# Altium integrated library Silicon Labs Clocks and Oscillators.IntLib: 678 symbols (part 43 of 45)
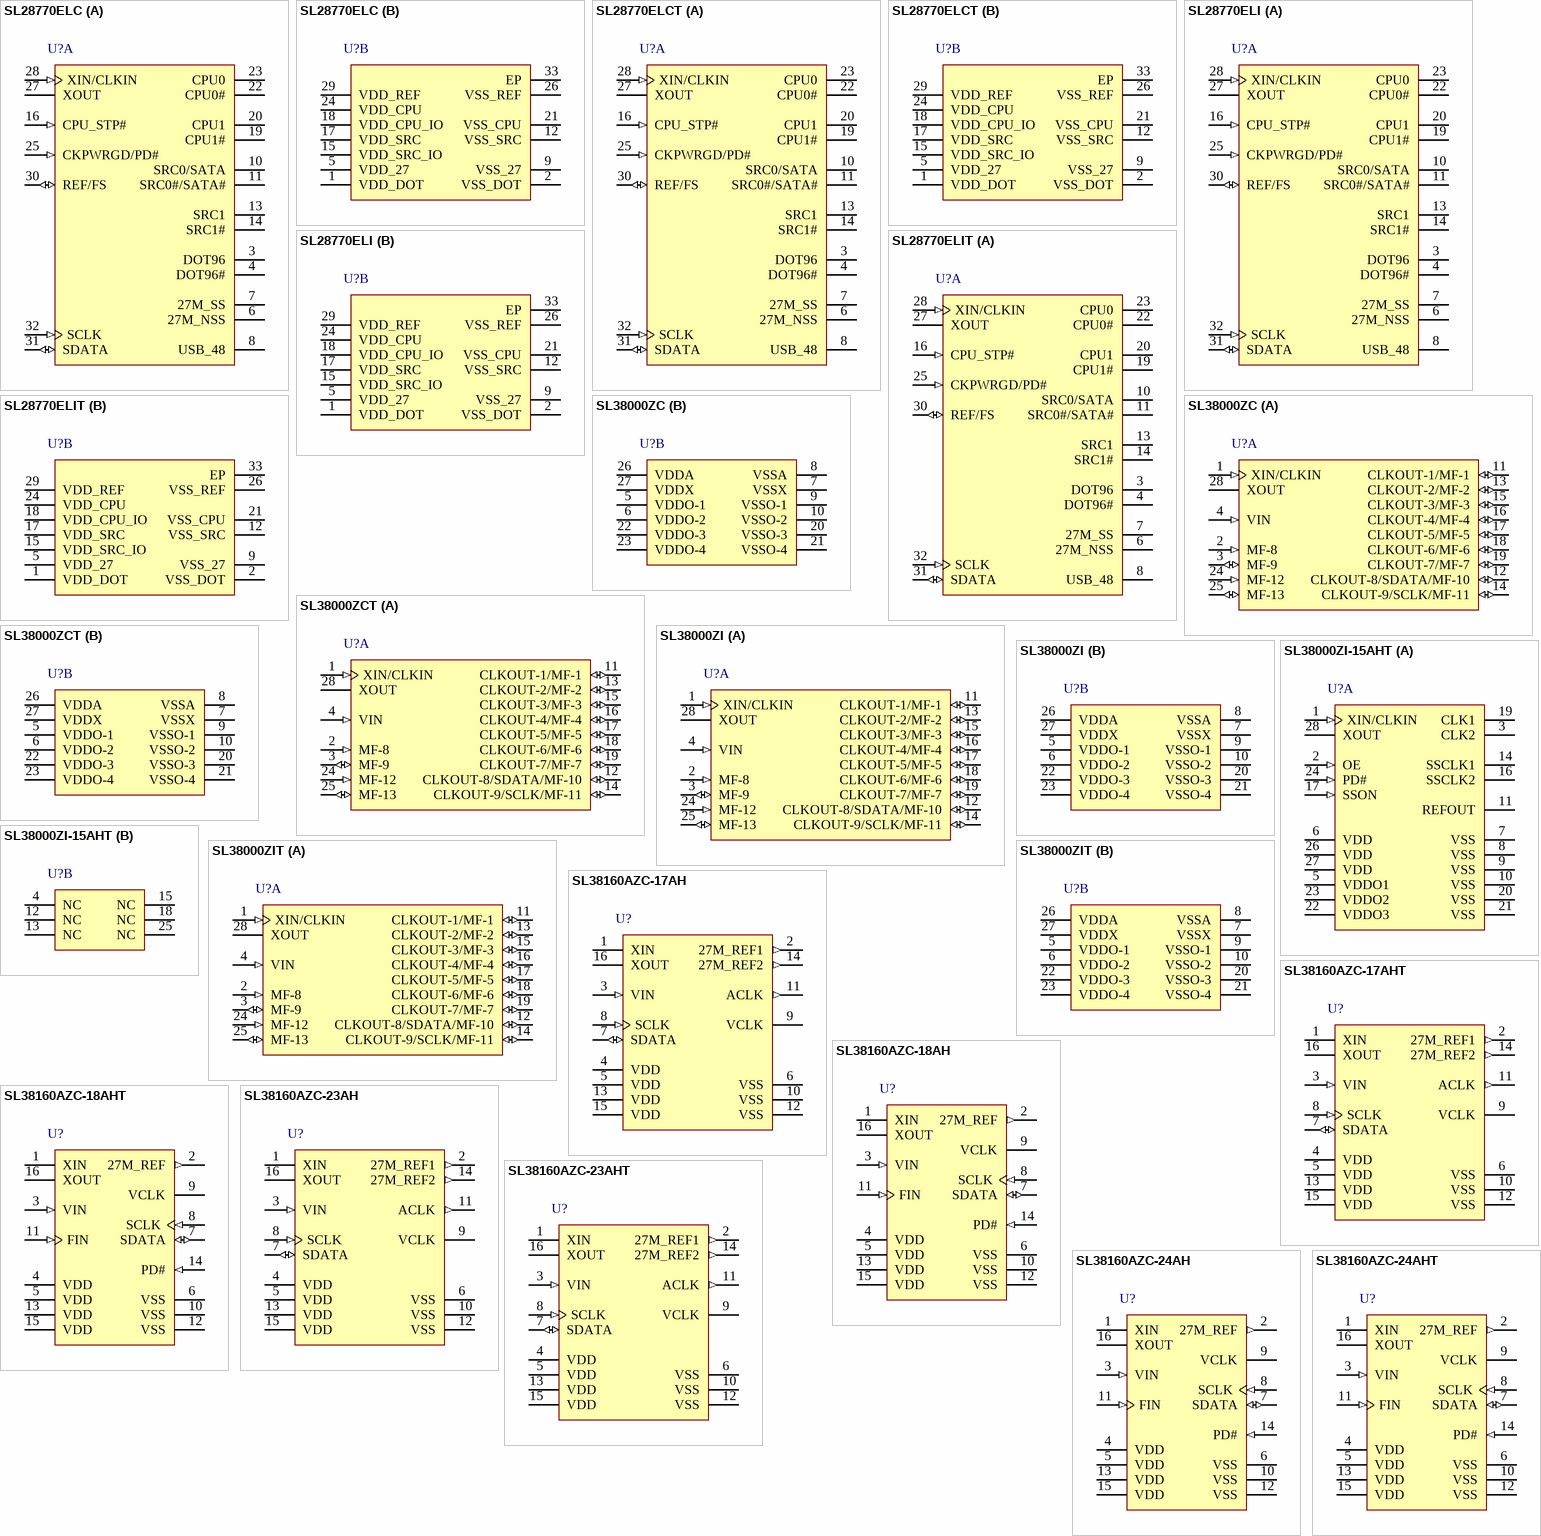
[diagram p86: symbols SL28770ELC to SL38160AZC-24AHT]

## SL28770ELI
designator U?
EProClock(R) Generator for Intel Calpella Chipset, 3.3 V, 133 MHz Max Output, -40 to 85 degC, 32-pin QFN; Manufacturer: Silicon Labs; PartNumber: SL28770ELI; Output Format: LVCMOS; HCSL; Output Frequency (MHz): 14.318; 27; 48; 96; 100; 133; Reference Inputs: 1; VDD: 3.3 V; Sub-Family: Clock Generators; DatasheetVersion: Rev. AA; PackageReference: QFN-32; PackageDescription: 32-Pin Quad-Flat No-Leads Package, Body 5 x 5 mm, Pitch 0.5 mm; Supplier 1: Digi-Key; Supplier Part Number 1: SL28770ELI-ND; Supplier 2: Mouser; Supplier Part Number 2: 634-SL28770ELI; Mounting Technology: Surface Mount; ComponentLink1Description: Manufacturer URL; ComponentLink1URL: http://www.silabs.com/; ComponentLink2Description: Datasheet; ComponentLink2URL: http://www.silabs.com/Support%20Documents/TechnicalDocs/SL28770.pdf; ComponentLink3Description: Package Specification; ComponentLink3URL: http://www.silabs.com/Support%20Documents/TechnicalDocs/SL28PCIe10.pdf
footprint SLAB-QFN-32-3300x3300TP_B_N (QFN, 32-Leads, Body 5.1x5.1mm, Pitch 0.5mm, Thermal Pad 3.3x3.3mm, IPC Medium Density)
footprint SLAB-QFN-32-3300x3300TP_B_L (QFN, 32-Leads, Body 5.1x5.1mm, Pitch 0.5mm, Thermal Pad 3.3x3.3mm, IPC High Density)
footprint SLAB-QFN-32-3300x3300TP_B_M (QFN, 32-Leads, Body 5.1x5.1mm, Pitch 0.5mm, Thermal Pad 3.3x3.3mm, IPC Low Density)
part A pins: 3 DOT96 (hiz) "Fixed true 96MHz clock output", 4 DOT96# (hiz) "Fixed complement 96MHz clock output", 6 27M_NSS (hiz) "Non-spread 27MHz video clock output", 7 27M_SS (hiz) "Spread 27MHz video clock output", 8 USB_48 (hiz) "Non-spread 48MHz video clock output", 10 SRC0/SATA (hiz) "100MHz True differential serial reference clock", 11 SRC0#/SATA# (hiz) "100MHz Complement differential serial reference clock", 13 SRC1 (hiz) "100MHz True differential serial reference clock", 14 SRC1# (hiz) "100MHz Complement differential serial reference clock", 16 CPU_STP# (in) "3.3V tolerance input to stop the CPU clock", 19 CPU1# (hiz) "Complement differential CPU clock output", 20 CPU1 (hiz) "True differential CPU clock output", 22 CPU0# (hiz) "Complement differential CPU clock output", 23 CPU0 (hiz) "True differential CPU clock output", 25 CKPWRGD/PD# (in) "3.3V LVTTL input. This pin is a level sensitive strobe used to latch the FS. After CKPWRGD (active HIGH) assertion, this pin becomes a real-time input for asserting power down (active LOW)", 27 XOUT "14.318MHz Crystal output, Float XOUT if using only CLKIN (Clock input)", 28 XIN/CLKIN (in) "14.318MHz Crystal input or 3.3V, 14.318MHz Clock Input", 30 REF/FS (io) "3.3V tolerant input for Graphic clock selection/fixed 14.318MHz clock output. (Internal 100K-ohm pull-down resistor on FS pin) Refer to DC Electrical Specifications table for Vil_FS and Vih_FS specifications", 31 SDATA (io) "SMBus compatible SDATA", 32 SCLK (in) "SMBus compatible SCLOCK"
part B pins: 1 VDD_DOT (power) "3.3V Power supply for outputs and PLL", 2 VSS_DOT (power) "Ground for outputs", 5 VDD_27 (power) "3.3V Power supply for 27MHz PLL", 9 VSS_27 (power) "Ground for 27MHz PLL", 12 VSS_SRC (power) "Ground for PLL", 15 VDD_SRC_IO (power) "Scalable 3.3V to 1.05V power supply for output buffer", 17 VDD_SRC (power) "3.3V Power supply for PLL", 18 VDD_CPU_IO (power) "Scalable 3.3V to 1.05V power supply for output buffer", 21 VSS_CPU (power) "Ground for PLL", 24 VDD_CPU (power) "3.3V Power supply for CPU PLL", 26 VSS_REF (power) "Ground for outputs", 29 VDD_REF (power) "3.3V Power supply for outputs and also maintains SMBUS registers during power-down", 33 EP

## SL28770ELIT
designator U?
EProClock(R) Generator for Intel Calpella Chipset, 3.3 V, 133 MHz Max Output, -40 to 85 degC, 32-pin QFN, Tape and Reel; Manufacturer: Silicon Labs; PartNumber: SL28770ELIT; Output Format: LVCMOS; HCSL; Output Frequency (MHz): 14.318; 27; 48; 96; 100; 133; Phase Jitter (RMS): > 1 ps; Reference Inputs: 1; VDD: 3.3 V; Sub-Family: Clock Generators; DatasheetVersion: Rev. AA; PackageReference: QFN-32; PackageDescription: 32-Pin Quad-Flat No-Leads Package, Body 5 x 5 mm, Pitch 0.5 mm; Supplier 1: Digi-Key; Supplier Part Number 1: SL28770ELIT-ND; Supplier 2: Mouser; Supplier Part Number 2: 634-SL28770ELIT; Packing: Tape and Reel; Mounting Technology: Surface Mount; ComponentLink1Description: Manufacturer URL; ComponentLink1URL: http://www.silabs.com/; ComponentLink2Description: Datasheet; ComponentLink2URL: http://www.silabs.com/Support%20Documents/TechnicalDocs/SL28770.pdf; ComponentLink3Description: Package Specification; ComponentLink3URL: http://www.silabs.com/Support%20Documents/TechnicalDocs/SL28PCIe10.pdf
footprint SLAB-QFN-32-3300x3300TP_B_N (QFN, 32-Leads, Body 5.1x5.1mm, Pitch 0.5mm, Thermal Pad 3.3x3.3mm, IPC Medium Density)
footprint SLAB-QFN-32-3300x3300TP_B_L (QFN, 32-Leads, Body 5.1x5.1mm, Pitch 0.5mm, Thermal Pad 3.3x3.3mm, IPC High Density)
footprint SLAB-QFN-32-3300x3300TP_B_M (QFN, 32-Leads, Body 5.1x5.1mm, Pitch 0.5mm, Thermal Pad 3.3x3.3mm, IPC Low Density)
part A pins: 3 DOT96 (hiz) "Fixed true 96MHz clock output", 4 DOT96# (hiz) "Fixed complement 96MHz clock output", 6 27M_NSS (hiz) "Non-spread 27MHz video clock output", 7 27M_SS (hiz) "Spread 27MHz video clock output", 8 USB_48 (hiz) "Non-spread 48MHz video clock output", 10 SRC0/SATA (hiz) "100MHz True differential serial reference clock", 11 SRC0#/SATA# (hiz) "100MHz Complement differential serial reference clock", 13 SRC1 (hiz) "100MHz True differential serial reference clock", 14 SRC1# (hiz) "100MHz Complement differential serial reference clock", 16 CPU_STP# (in) "3.3V tolerance input to stop the CPU clock", 19 CPU1# (hiz) "Complement differential CPU clock output", 20 CPU1 (hiz) "True differential CPU clock output", 22 CPU0# (hiz) "Complement differential CPU clock output", 23 CPU0 (hiz) "True differential CPU clock output", 25 CKPWRGD/PD# (in) "3.3V LVTTL input. This pin is a level sensitive strobe used to latch the FS. After CKPWRGD (active HIGH) assertion, this pin becomes a real-time input for asserting power down (active LOW)", 27 XOUT "14.318MHz Crystal output, Float XOUT if using only CLKIN (Clock input)", 28 XIN/CLKIN (in) "14.318MHz Crystal input or 3.3V, 14.318MHz Clock Input", 30 REF/FS (io) "3.3V tolerant input for Graphic clock selection/fixed 14.318MHz clock output. (Internal 100K-ohm pull-down resistor on FS pin) Refer to DC Electrical Specifications table for Vil_FS and Vih_FS specifications", 31 SDATA (io) "SMBus compatible SDATA", 32 SCLK (in) "SMBus compatible SCLOCK"
part B pins: 1 VDD_DOT (power) "3.3V Power supply for outputs and PLL", 2 VSS_DOT (power) "Ground for outputs", 5 VDD_27 (power) "3.3V Power supply for 27MHz PLL", 9 VSS_27 (power) "Ground for 27MHz PLL", 12 VSS_SRC (power) "Ground for PLL", 15 VDD_SRC_IO (power) "Scalable 3.3V to 1.05V power supply for output buffer", 17 VDD_SRC (power) "3.3V Power supply for PLL", 18 VDD_CPU_IO (power) "Scalable 3.3V to 1.05V power supply for output buffer", 21 VSS_CPU (power) "Ground for PLL", 24 VDD_CPU (power) "3.3V Power supply for CPU PLL", 26 VSS_REF (power) "Ground for outputs", 29 VDD_REF (power) "3.3V Power supply for outputs and also maintains SMBUS registers during power-down", 33 EP

## SL38000ZC
designator U?
Programmable 4-PLL CG with VCXO and SSCG, 1.8 / 2.5 / 3.3 V, 3 to 200 MHz Output, 0 to 70 degC, 28-pin SOP, Tube; Manufacturer: Silicon Labs; PartNumber: SL38000ZC; Output Format: LVCMOS; Output Frequency (MHz): 3 to 200; Phase Jitter (RMS): > 1 ps; Reference Inputs: 1; VDD: 1.8 V; 2.5 V; 3.3 V; Sub-Family: Clock Generators part3; DatasheetVersion: Rev. 1.1; PackageReference: TSSOP-28; PackageDescription: 28-Pin Thin Shrink Small-Outline Package, Body 9.7 x 4.4 mm, Pitch 0.65 mm; Supplier 1: Digi-Key; Supplier Part Number 1: SL38000ZC-ND; Supplier 2: Mouser; Supplier Part Number 2: 634-SL38000ZC; Packing: Tube; Mounting Technology: Surface Mount; Code_JEDEC: MO-153; ComponentLink1Description: Manufacturer URL; ComponentLink1URL: http://www.silabs.com/; ComponentLink2Description: Datasheet; ComponentLink2URL: http://www.silabs.com/Support%20Documents/TechnicalDocs/SL38000.pdf; ComponentLink3Description: Package Specification; ComponentLink3URL: http://www.silabs.com/Support%20Documents/TechnicalDocs/SL38000.pdf
footprint SLAB-TSSOP-28_A_N (SOP, 28-Leads, Body 9.8x4.5mm, Pitch 0.65mm, IPC Medium Density)
footprint SLAB-TSSOP-28_A_L (SOP, 28-Leads, Body 9.8x4.5mm, Pitch 0.65mm, IPC High Density)
footprint SLAB-TSSOP-28_A_M (SOP, 28-Leads, Body 9.8x4.5mm, Pitch 0.65mm, IPC Low Density)
part A pins: 1 XIN/CLKIN (in) "Crystal oscillator or external clock input.", 2 MF-8 (in) "Multi function input/output. Programmed as OE, FS. There is no programmable pull-up/down resistor.", 3 MF-9 (io) "Multi function input/output. Programmed as REFOUT-1, OE, PD#, SSON# or FS. Only programmable pull-up resistor available.", 4 VIN (in) "VCXO control pin VIN.", 11 CLKOUT-1/MF-1 (io), 12 CLKOUT-8/SDATA/MF-10 (io), 13 CLKOUT-2/MF-2 (io), 14 CLKOUT-9/SCLK/MF-11 (io), 15 CLKOUT-3/MF-3 (io), 16 CLKOUT-4/MF-4 (io), 17 CLKOUT-5/MF-5 (io), 18 CLKOUT-6/MF-6 (io), 19 CLKOUT-7/MF-7 (io), 24 MF-12 (in) "Multi function input. Programmed as OE, PD#, SSON# or FS. Programmable pull-up/down resistor is available.", 25 MF-13 (io) "Multi function input/output. Programmed as REFOUT-2, OE, PD#, SSON# or FS. Programmable pull-up/down resistor is available.", 28 XOUT "Leave unconnected when external clock is used."
part B pins: 5 VDDO-1 (power) "Power supply for CLKOUT-3, 3.3V to 2.5V or 1.8V, VDDO =< VDD.", 6 VDDO-2 (power) "Power supply for CLKOUT-1/2/8/9, 3.3V to 2.5V or 1.8V, VDDO =< VDD.", 7 VSSX (power) "Power supply ground for oscillator and core logic.", 8 VSSA (power) "Power supply ground for PLLs.", 9 VSSO-1 (power) "Power ground for CLKOUT-3.", 10 VSSO-2 (power) "Power ground for CLKOUT-1/2/8/9.", 20 VSSO-3 (power) "Power ground for CLKOUT-5/6/7.", 21 VSSO-4 (power) "Power ground for CLKOUT-4.", 22 VDDO-3 (power) "Power supply for CLKOUT-5/6/7, 3.3V to 2.5V or 1.8V, VDDO =< VDD.", 23 VDDO-4 (power) "Power supply for CLKOUT-4, 3.3V to 2.5V or 1.8V, VDDO =< VDD.", 26 VDDA (power) "Power supply, 3.3V to 2.5V, for PLLs.", 27 VDDX (power) "Power supply, 3.3V to 2.5V, for oscillator and core logic."

## SL38000ZCT
designator U?
Programmable 4-PLL CG with VCXO and SSCG, 1.8 / 2.5 / 3.3 V, 3 to 200 MHz Output, 0 to 70 degC, 28-pin SOP, Tape and Reel; Manufacturer: Silicon Labs; PartNumber: SL38000ZCT; Output Format: LVCMOS; Output Frequency (MHz): 3 to 200; Phase Jitter (RMS): > 1 ps; Reference Inputs: 1; VDD: 1.8 V; 2.5 V; 3.3 V; Sub-Family: Clock Generators part3; DatasheetVersion: Rev. 1.1; PackageReference: TSSOP-28; PackageDescription: 28-Pin Thin Shrink Small-Outline Package, Body 9.7 x 4.4 mm, Pitch 0.65 mm; Supplier 1: Digi-Key; Supplier Part Number 1: SL38000ZCT-ND; Supplier 2: Mouser; Supplier Part Number 2: 634-SL38000ZCT; Packing: Tape and Reel; Mounting Technology: Surface Mount; Code_JEDEC: MO-153; ComponentLink1Description: Manufacturer URL; ComponentLink1URL: http://www.silabs.com/; ComponentLink2Description: Datasheet; ComponentLink2URL: http://www.silabs.com/Support%20Documents/TechnicalDocs/SL38000.pdf; ComponentLink3Description: Package Specification; ComponentLink3URL: http://www.silabs.com/Support%20Documents/TechnicalDocs/SL38000.pdf
footprint SLAB-TSSOP-28_A_N (SOP, 28-Leads, Body 9.8x4.5mm, Pitch 0.65mm, IPC Medium Density)
footprint SLAB-TSSOP-28_A_L (SOP, 28-Leads, Body 9.8x4.5mm, Pitch 0.65mm, IPC High Density)
footprint SLAB-TSSOP-28_A_M (SOP, 28-Leads, Body 9.8x4.5mm, Pitch 0.65mm, IPC Low Density)
part A pins: 1 XIN/CLKIN (in) "Crystal oscillator or external clock input.", 2 MF-8 (in) "Multi function input/output. Programmed as OE, FS. There is no programmable pull-up/down resistor.", 3 MF-9 (io) "Multi function input/output. Programmed as REFOUT-1, OE, PD#, SSON# or FS. Only programmable pull-up resistor available.", 4 VIN (in) "VCXO control pin VIN.", 11 CLKOUT-1/MF-1 (io), 12 CLKOUT-8/SDATA/MF-10 (io), 13 CLKOUT-2/MF-2 (io), 14 CLKOUT-9/SCLK/MF-11 (io), 15 CLKOUT-3/MF-3 (io), 16 CLKOUT-4/MF-4 (io), 17 CLKOUT-5/MF-5 (io), 18 CLKOUT-6/MF-6 (io), 19 CLKOUT-7/MF-7 (io), 24 MF-12 (in) "Multi function input. Programmed as OE, PD#, SSON# or FS. Programmable pull-up/down resistor is available.", 25 MF-13 (io) "Multi function input/output. Programmed as REFOUT-2, OE, PD#, SSON# or FS. Programmable pull-up/down resistor is available.", 28 XOUT "Leave unconnected when external clock is used."
part B pins: 5 VDDO-1 (power) "Power supply for CLKOUT-3, 3.3V to 2.5V or 1.8V, VDDO =< VDD.", 6 VDDO-2 (power) "Power supply for CLKOUT-1/2/8/9, 3.3V to 2.5V or 1.8V, VDDO =< VDD.", 7 VSSX (power) "Power supply ground for oscillator and core logic.", 8 VSSA (power) "Power supply ground for PLLs.", 9 VSSO-1 (power) "Power ground for CLKOUT-3.", 10 VSSO-2 (power) "Power ground for CLKOUT-1/2/8/9.", 20 VSSO-3 (power) "Power ground for CLKOUT-5/6/7.", 21 VSSO-4 (power) "Power ground for CLKOUT-4.", 22 VDDO-3 (power) "Power supply for CLKOUT-5/6/7, 3.3V to 2.5V or 1.8V, VDDO =< VDD.", 23 VDDO-4 (power) "Power supply for CLKOUT-4, 3.3V to 2.5V or 1.8V, VDDO =< VDD.", 26 VDDA (power) "Power supply, 3.3V to 2.5V, for PLLs.", 27 VDDX (power) "Power supply, 3.3V to 2.5V, for oscillator and core logic."

## SL38000ZI
designator U?
Programmable 4-PLL CG with VCXO and SSCG, 1.8 / 2.5 / 3.3 V, 3 to 200 MHz Output, -40 to 85 degC, 28-pin SOP, Tube; Manufacturer: Silicon Labs; PartNumber: SL38000ZI; Output Format: LVCMOS; Output Frequency (MHz): 3 to 200; Phase Jitter (RMS): > 1 ps; Reference Inputs: 1; VDD: 1.8 V; 2.5 V; 3.3 V; Sub-Family: Clock Generators part3; DatasheetVersion: Rev. 1.1; PackageReference: TSSOP-28; PackageDescription: 28-Pin Thin Shrink Small-Outline Package, Body 9.7 x 4.4 mm, Pitch 0.65 mm; Supplier 1: Digi-Key; Supplier Part Number 1: SL38000ZI-ND; Supplier 2: Mouser; Supplier Part Number 2: 634-SL38000ZI; Packing: Tube; Mounting Technology: Surface Mount; Code_JEDEC: MO-153; ComponentLink1Description: Manufacturer URL; ComponentLink1URL: http://www.silabs.com/; ComponentLink2Description: Datasheet; ComponentLink2URL: http://www.silabs.com/Support%20Documents/TechnicalDocs/SL38000.pdf; ComponentLink3Description: Package Specification; ComponentLink3URL: http://www.silabs.com/Support%20Documents/TechnicalDocs/SL38000.pdf
footprint SLAB-TSSOP-28_A_N (SOP, 28-Leads, Body 9.8x4.5mm, Pitch 0.65mm, IPC Medium Density)
footprint SLAB-TSSOP-28_A_L (SOP, 28-Leads, Body 9.8x4.5mm, Pitch 0.65mm, IPC High Density)
footprint SLAB-TSSOP-28_A_M (SOP, 28-Leads, Body 9.8x4.5mm, Pitch 0.65mm, IPC Low Density)
part A pins: 1 XIN/CLKIN (in) "Crystal oscillator or external clock input.", 2 MF-8 (in) "Multi function input/output. Programmed as OE, FS. There is no programmable pull-up/down resistor.", 3 MF-9 (io) "Multi function input/output. Programmed as REFOUT-1, OE, PD#, SSON# or FS. Only programmable pull-up resistor available.", 4 VIN (in) "VCXO control pin VIN.", 11 CLKOUT-1/MF-1 (io), 12 CLKOUT-8/SDATA/MF-10 (io), 13 CLKOUT-2/MF-2 (io), 14 CLKOUT-9/SCLK/MF-11 (io), 15 CLKOUT-3/MF-3 (io), 16 CLKOUT-4/MF-4 (io), 17 CLKOUT-5/MF-5 (io), 18 CLKOUT-6/MF-6 (io), 19 CLKOUT-7/MF-7 (io), 24 MF-12 (in) "Multi function input. Programmed as OE, PD#, SSON# or FS. Programmable pull-up/down resistor is available.", 25 MF-13 (io) "Multi function input/output. Programmed as REFOUT-2, OE, PD#, SSON# or FS. Programmable pull-up/down resistor is available.", 28 XOUT "Leave unconnected when external clock is used."
part B pins: 5 VDDO-1 (power) "Power supply for CLKOUT-3, 3.3V to 2.5V or 1.8V, VDDO =< VDD.", 6 VDDO-2 (power) "Power supply for CLKOUT-1/2/8/9, 3.3V to 2.5V or 1.8V, VDDO =< VDD.", 7 VSSX (power) "Power supply ground for oscillator and core logic.", 8 VSSA (power) "Power supply ground for PLLs.", 9 VSSO-1 (power) "Power ground for CLKOUT-3.", 10 VSSO-2 (power) "Power ground for CLKOUT-1/2/8/9.", 20 VSSO-3 (power) "Power ground for CLKOUT-5/6/7.", 21 VSSO-4 (power) "Power ground for CLKOUT-4.", 22 VDDO-3 (power) "Power supply for CLKOUT-5/6/7, 3.3V to 2.5V or 1.8V, VDDO =< VDD.", 23 VDDO-4 (power) "Power supply for CLKOUT-4, 3.3V to 2.5V or 1.8V, VDDO =< VDD.", 26 VDDA (power) "Power supply, 3.3V to 2.5V, for PLLs.", 27 VDDX (power) "Power supply, 3.3V to 2.5V, for oscillator and core logic."

## SL38000ZI-15AHT
designator U?
4-PLL Clock Generator with SSC, 1.8 / 2.5 / 3.3 V, 3 to 200 MHz Output, -40 to 85 degC, 28-pin SOP, Tape and Reel; Manufacturer: Silicon Labs; PartNumber: SL38000ZI-15AHT; Output Format: LVCMOS; Output Frequency (MHz): 3 to 200; Phase Jitter (RMS): > 1 ps; Reference Inputs: 1; VDD: 1.8 V; 2.5 V; 3.3 V; Sub-Family: Clock Generators part3; DatasheetVersion: Rev. 2.3; PackageReference: TSSOP-28; PackageDescription: 28-Pin Thin Shrink Small-Outline Package, Body 9.7 x 4.4 mm, Pitch 0.65 mm; Supplier 1: Digi-Key; Supplier Part Number 1: SL38000ZI-15AHT-ND; Supplier 2: Mouser; Supplier Part Number 2: 634-SL38000ZI-15AHT; Packing: Tape and Reel; Mounting Technology: Surface Mount; Code_JEDEC: MO-153; ComponentLink1Description: Manufacturer URL; ComponentLink1URL: http://www.silabs.com/; ComponentLink2Description: Datasheet; ComponentLink2URL: http://www.silabs.com/Support%20Documents/TechnicalDocs/SL38000-15AH.pdf; ComponentLink3Description: Package Specification; ComponentLink3URL: http://www.silabs.com/Support%20Documents/TechnicalDocs/SL38000.pdf
footprint SLAB-TSSOP-28_A_N (SOP, 28-Leads, Body 9.8x4.5mm, Pitch 0.65mm, IPC Medium Density)
footprint SLAB-TSSOP-28_A_L (SOP, 28-Leads, Body 9.8x4.5mm, Pitch 0.65mm, IPC High Density)
footprint SLAB-TSSOP-28_A_M (SOP, 28-Leads, Body 9.8x4.5mm, Pitch 0.65mm, IPC Low Density)
part A pins: 1 XIN/CLKIN (in) "External crystal oscillator input. XIN=25.000MHz. If crystal with CL=18pF is  used no external crystal load capacitors are needed. See Note-2 below.", 2 OE (in) "Output enable for CLK1 (12.000MHz) pin. OE=1 CLK1 is enabled. OE=0 CLK1  is disabled. Refer to Table 2. Weakly pulled-up to VDD (200kohm-typ).", 3 CLK2 (hiz) "125.000MHz clock output. No Spread.", 5 VDDO1 (power) "Power pin for SSCLK1=133.333MHz. 3.3V+/-10%. Power supply ramp on this  pin should be the same as VDD power ramp on pins 6, 26 and 27. See Note-1  below.", 6 VDD (power) "3.3V+/-10%.", 7 VSS (power) "Power supply ground for VDD and VDDO pins.", 8 VSS (power) "Power supply ground for VDD and VDDO pins.", 9 VSS (power) "Power supply ground for VDD and VDDO pins.", 10 VSS (power) "Power supply ground for VDD and VDDO pins.", 11 REFOUT (hiz) "25.000MHz. (Same as crystal input frequency)", 14 SSCLK1 (hiz) "133.333MHz clock output with spread option. Spread is off if SSON=0. Spread  is on if SSON=1. Refer to Table 1.", 16 SSCLK2 (hiz) "50.000MHz clock output with spread option. Spread is off if SSON=0. Spread  is on if SSON=1. Refer to Table 1.", 17 SSON (in) "Spread control pin for SSCLK1 (133.333MHz) and SSCLK2 (50.000MHz)  clocks. If SSON=1 spread is on. If SSON=0 spread is 0% (no spread). Refer to  Table 1 for spread % values. Weakly pulled-down to VSS (200kohm-typ). SSON is (See Datasheet)", 19 CLK1 (hiz) "12.000MHz clock output. No Spread.", 20 VSS (power) "Power supply ground for VDD and VDDO pins.", 21 VSS (power) "Power supply ground for VDD and VDDO pins.", 22 VDDO3 (power) "Power pin for CLK1=12.000MHz. 3.3V+/-10%. Power supply ramp on this pin  should be the same as VDD power ramp on pins 6, 26 and 27. See Note-1  below.", 23 VDDO2 (power) "Power pin for SSCLK2=50.000MHz. 3.3V+/-10%. Power supply ramp on this  pin should be the same as VDD power ramp on pins 6, 26 and 27. See Note-1  below.", 24 PD# (in) "Power down control pin. PD#=1 is normal operation. Device is turned off if  PD#=0. Refer to Table 3. Weakly pulled-up to VDD (200kohm-typ).", 26 VDD (power) "3.3V+/-10%.", 27 VDD (power) "3.3V+/-10%.", 28 XOUT "External crystal output. If crystal with CL=18pF is used no external crystal load  capacitors are needed. See Note-2 below."
part B pins: 4 NC "No connect (leave these pins floating).", 12 NC "No connect (leave these pins floating).", 13 NC "No connect (leave these pins floating).", 15 NC "No connect (leave these pins floating).", 18 NC "No connect (leave these pins floating).", 25 NC "No connect (leave these pins floating)."

## SL38000ZIT
designator U?
Programmable 4-PLL CG with VCXO and SSCG, 1.8 / 2.5 / 3.3 V, 3 to 200 MHz Output, -40 to 85 degC, 28-pin SOP, Tape and Reel; Manufacturer: Silicon Labs; PartNumber: SL38000ZIT; Output Format: LVCMOS; Output Frequency (MHz): 3 to 200; Phase Jitter (RMS): > 1 ps; Reference Inputs: 1; VDD: 1.8 V; 2.5 V; 3.3 V; Sub-Family: Clock Generators part3; DatasheetVersion: Rev. 1.1; PackageReference: TSSOP-28; PackageDescription: 28-Pin Thin Shrink Small-Outline Package, Body 9.7 x 4.4 mm, Pitch 0.65 mm; Supplier 1: Digi-Key; Supplier Part Number 1: SL38000ZIT-ND; Supplier 2: Mouser; Supplier Part Number 2: 634-SL38000ZIT; Packing: Tape and Reel; Mounting Technology: Surface Mount; Code_JEDEC: MO-153; ComponentLink1Description: Manufacturer URL; ComponentLink1URL: http://www.silabs.com/; ComponentLink2Description: Datasheet; ComponentLink2URL: http://www.silabs.com/Support%20Documents/TechnicalDocs/SL38000.pdf; ComponentLink3Description: Package Specification; ComponentLink3URL: http://www.silabs.com/Support%20Documents/TechnicalDocs/SL38000.pdf
footprint SLAB-TSSOP-28_A_N (SOP, 28-Leads, Body 9.8x4.5mm, Pitch 0.65mm, IPC Medium Density)
footprint SLAB-TSSOP-28_A_L (SOP, 28-Leads, Body 9.8x4.5mm, Pitch 0.65mm, IPC High Density)
footprint SLAB-TSSOP-28_A_M (SOP, 28-Leads, Body 9.8x4.5mm, Pitch 0.65mm, IPC Low Density)
part A pins: 1 XIN/CLKIN (in) "Crystal oscillator or external clock input.", 2 MF-8 (in) "Multi function input/output. Programmed as OE, FS. There is no programmable pull-up/down resistor.", 3 MF-9 (io) "Multi function input/output. Programmed as REFOUT-1, OE, PD#, SSON# or FS. Only programmable pull-up resistor available.", 4 VIN (in) "VCXO control pin VIN.", 11 CLKOUT-1/MF-1 (io), 12 CLKOUT-8/SDATA/MF-10 (io), 13 CLKOUT-2/MF-2 (io), 14 CLKOUT-9/SCLK/MF-11 (io), 15 CLKOUT-3/MF-3 (io), 16 CLKOUT-4/MF-4 (io), 17 CLKOUT-5/MF-5 (io), 18 CLKOUT-6/MF-6 (io), 19 CLKOUT-7/MF-7 (io), 24 MF-12 (in) "Multi function input. Programmed as OE, PD#, SSON# or FS. Programmable pull-up/down resistor is available.", 25 MF-13 (io) "Multi function input/output. Programmed as REFOUT-2, OE, PD#, SSON# or FS. Programmable pull-up/down resistor is available.", 28 XOUT "Leave unconnected when external clock is used."
part B pins: 5 VDDO-1 (power) "Power supply for CLKOUT-3, 3.3V to 2.5V or 1.8V, VDDO =< VDD.", 6 VDDO-2 (power) "Power supply for CLKOUT-1/2/8/9, 3.3V to 2.5V or 1.8V, VDDO =< VDD.", 7 VSSX (power) "Power supply ground for oscillator and core logic.", 8 VSSA (power) "Power supply ground for PLLs.", 9 VSSO-1 (power) "Power ground for CLKOUT-3.", 10 VSSO-2 (power) "Power ground for CLKOUT-1/2/8/9.", 20 VSSO-3 (power) "Power ground for CLKOUT-5/6/7.", 21 VSSO-4 (power) "Power ground for CLKOUT-4.", 22 VDDO-3 (power) "Power supply for CLKOUT-5/6/7, 3.3V to 2.5V or 1.8V, VDDO =< VDD.", 23 VDDO-4 (power) "Power supply for CLKOUT-4, 3.3V to 2.5V or 1.8V, VDDO =< VDD.", 26 VDDA (power) "Power supply, 3.3V to 2.5V, for PLLs.", 27 VDDX (power) "Power supply, 3.3V to 2.5V, for oscillator and core logic."

## SL38160AZC-17AH
designator U?
Programmable Audio / Video CG with VCXO, 3.3 V, 27 MHz Max Output, 0 to 70 degC, 16-pin SOP, Tube; Manufacturer: Silicon Labs; PartNumber: SL38160AZC-17AH; Output Format: LVCMOS; Output Frequency (MHz): 8.19 to 49.15; 13.5 to 148.5; 27; Phase Jitter (RMS): > 1 ps; Reference Inputs: 1; VDD: 3.3 V; Sub-Family: Clock Generators; DatasheetVersion: Rev. AB; PackageReference: TSSOP-16; PackageDescription: 16-Pin Thin Shrink Small-Outline Package, Body 5 x 4.4 mm, Pitch 0.65 mm; Supplier 1: Mouser; Supplier Part Number 1: N/A; Packing: Tube; Mounting Technology: Surface Mount; Code_JEDEC: MO-153; Code_IPC: J-STD-020C; ComponentLink1Description: Manufacturer URL; ComponentLink1URL: http://www.silabs.com/; ComponentLink2Description: Datasheet; ComponentLink2URL: http://www.silabs.com/Support%20Documents/TechnicalDocs/SL38160-17.pdf; ComponentLink3Description: Package Specification; ComponentLink3URL: http://www.silabs.com/Support%20Documents/TechnicalDocs/Si53360.pdf
footprint SLAB-TSSOP-16_N (SOP, 16-Leads, Body 5.1x4.5mm, Pitch 0.65mm, IPC Medium Density)
footprint SLAB-TSSOP-16_L (SOP, 16-Leads, Body 5.1x4.5mm, Pitch 0.65mm, IPC High Density)
footprint SLAB-TSSOP-16_M (SOP, 16-Leads, Body 5.1x4.5mm, Pitch 0.65mm, IPC Low Density)
pins: 1 XIN "Crystal oscillator input. Use fundamental parallel mode 27MHz crystal.", 2 27M_REF1 (out) "27 MHz reference clock output 1. (Default on) (Can be changed to off/synchronous stop, pulled low to VSS, through I2C)", 3 VIN (in) "VCXO frequency control voltage", 4 VDD (power) "3.3V +/-10% Positive Power Supply.", 5 VDD (power) "3.3V +/-10% Positive Power Supply.", 6 VSS (power) "Power supply ground for VDD.", 7 SDATA (io) "I2C Serial Data", 8 SCLK (in) "I2C Clock", 9 VCLK (hiz) "Video clock output. (Default on) (Can be changed to off/high impedance state through I2C)", 10 VSS (power) "Power supply ground for VDD.", 11 ACLK (out) "Audio clock output .(Default on) (Can be changed to off/synchronous stop, pulled low to VSS, through I2C)", 12 VSS (power) "Power supply ground for VDD.", 13 VDD (power) "3.3V +/-10% Positive Power Supply.", 14 27M_REF2 (out) "27 MHz reference clock output 2. (Default on) (Can be changed to off/synchronous stop, pulled low to VSS, through I2C)", 15 VDD (power) "3.3V +/-10% Positive Power Supply.", 16 XOUT "Crystal oscillator output. Use fundamental parallel mode 27MHz crystal."

## SL38160AZC-17AHT
designator U?
Programmable Audio / Video CG with VCXO, 3.3 V, 27 MHz Max Output, 0 to 70 degC, 16-pin SOP, Tape and Reel; Manufacturer: Silicon Labs; PartNumber: SL38160AZC-17AHT; Output Format: LVCMOS; Output Frequency (MHz): 8.19 to 49.15; 13.5 to 148.5; 27; Phase Jitter (RMS): > 1 ps; Reference Inputs: 1; VDD: 3.3 V; Sub-Family: Clock Generators; DatasheetVersion: Rev. AB; PackageReference: TSSOP-16; PackageDescription: 16-Pin Thin Shrink Small-Outline Package, Body 5 x 4.4 mm, Pitch 0.65 mm; Supplier 1: Digi-Key; Supplier Part Number 1: SL38160AZC-17AHT-ND; Supplier 2: Mouser; Supplier Part Number 2: 634-SL38160AZC-17AHT; Packing: Tape and Reel; Mounting Technology: Surface Mount; Code_JEDEC: MO-153; Code_IPC: J-STD-020C; ComponentLink1Description: Manufacturer URL; ComponentLink1URL: http://www.silabs.com/; ComponentLink2Description: Datasheet; ComponentLink2URL: http://www.silabs.com/Support%20Documents/TechnicalDocs/SL38160-17.pdf; ComponentLink3Description: Package Specification; ComponentLink3URL: http://www.silabs.com/Support%20Documents/TechnicalDocs/Si53360.pdf
footprint SLAB-TSSOP-16_N (SOP, 16-Leads, Body 5.1x4.5mm, Pitch 0.65mm, IPC Medium Density)
footprint SLAB-TSSOP-16_L (SOP, 16-Leads, Body 5.1x4.5mm, Pitch 0.65mm, IPC High Density)
footprint SLAB-TSSOP-16_M (SOP, 16-Leads, Body 5.1x4.5mm, Pitch 0.65mm, IPC Low Density)
pins: 1 XIN "Crystal oscillator input. Use fundamental parallel mode 27MHz crystal.", 2 27M_REF1 (out) "27 MHz reference clock output 1. (Default on) (Can be changed to off/synchronous stop, pulled low to VSS, through I2C)", 3 VIN (in) "VCXO frequency control voltage", 4 VDD (power) "3.3V +/-10% Positive Power Supply.", 5 VDD (power) "3.3V +/-10% Positive Power Supply.", 6 VSS (power) "Power supply ground for VDD.", 7 SDATA (io) "I2C Serial Data", 8 SCLK (in) "I2C Clock", 9 VCLK (hiz) "Video clock output. (Default on) (Can be changed to off/high impedance state through I2C)", 10 VSS (power) "Power supply ground for VDD.", 11 ACLK (out) "Audio clock output .(Default on) (Can be changed to off/synchronous stop, pulled low to VSS, through I2C)", 12 VSS (power) "Power supply ground for VDD.", 13 VDD (power) "3.3V +/-10% Positive Power Supply.", 14 27M_REF2 (out) "27 MHz reference clock output 2. (Default on) (Can be changed to off/synchronous stop, pulled low to VSS, through I2C)", 15 VDD (power) "3.3V +/-10% Positive Power Supply.", 16 XOUT "Crystal oscillator output. Use fundamental parallel mode 27MHz crystal."

## SL38160AZC-18AH
designator U?
Programmable Video CG with VCXO, 3.3 V, 200 MHz Max Output, 0 to 70 degC, 16-pin SOP, Tube; Manufacturer: Silicon Labs; PartNumber: SL38160AZC-18AH; Output Format: LVCMOS; Output Frequency (MHz): 25 to 200; 27; Phase Jitter (RMS): > 1 ps; Reference Inputs: 2; VDD: 3.3 V; Sub-Family: Clock Generators; DatasheetVersion: Rev. AB; PackageReference: TSSOP-16; PackageDescription: 16-Pin Thin Shrink Small-Outline Package, Body 5 x 4.4 mm, Pitch 0.65 mm; Supplier 1: Mouser; Supplier Part Number 1: N/A; Packing: Tube; Mounting Technology: Surface Mount; Code_JEDEC: MO-153; Code_IPC: J-STD-020C; ComponentLink1Description: Manufacturer URL; ComponentLink1URL: http://www.silabs.com/; ComponentLink2Description: Datasheet; ComponentLink2URL: http://www.silabs.com/Support%20Documents/TechnicalDocs/SL38160-18.pdf; ComponentLink3Description: Package Specification; ComponentLink3URL: http://www.silabs.com/Support%20Documents/TechnicalDocs/Si53360.pdf
footprint SLAB-TSSOP-16_N (SOP, 16-Leads, Body 5.1x4.5mm, Pitch 0.65mm, IPC Medium Density)
footprint SLAB-TSSOP-16_L (SOP, 16-Leads, Body 5.1x4.5mm, Pitch 0.65mm, IPC High Density)
footprint SLAB-TSSOP-16_M (SOP, 16-Leads, Body 5.1x4.5mm, Pitch 0.65mm, IPC Low Density)
pins: 1 XIN "Crystal oscillator input. Use fundamental parallel mode 27MHz crystal.", 2 27M_REF (out) "27 MHz reference clock output.", 3 VIN (in) "VCXO frequency control voltage", 4 VDD (power) "3.3V +/-10% Positive Power Supply.", 5 VDD (power) "3.3V +/-10% Positive Power Supply.", 6 VSS (power) "Power supply ground for VDD.", 7 SDATA (io) "I2C Serial Data", 8 SCLK (in) "I2C Clock", 9 VCLK (hiz) "Video clock output. (Default on) (Can be changed to off/high impedance state through I2C)", 10 VSS (power) "Power supply ground for VDD.", 11 FIN (in) "External 27 MHz reference clock input. (Crystal mode or external clock mode controlled through I2C)", 12 VSS (power) "Power supply ground for VDD.", 13 VDD (power) "3.3V +/-10% Positive Power Supply.", 14 PD# (in) "Power down control. 1 = normal operation, 0 = power down mode, all output clocks in low state. This pin features a 250 kohm pullup resistor.", 15 VDD (power) "3.3V +/-10% Positive Power Supply.", 16 XOUT "Crystal oscillator output. Use fundamental parallel mode 27MHz crystal."

## SL38160AZC-18AHT
designator U?
Programmable Video CG with VCXO, 3.3 V, 200 MHz Max Output, 0 to 70 degC, 16-pin SOP, Tape and Reel; Manufacturer: Silicon Labs; PartNumber: SL38160AZC-18AHT; Output Format: LVCMOS; Output Frequency (MHz): 25 to 200; 27; Phase Jitter (RMS): > 1 ps; Reference Inputs: 2; VDD: 3.3 V; Sub-Family: Clock Generators; DatasheetVersion: Rev. AB; PackageReference: TSSOP-16; PackageDescription: 16-Pin Thin Shrink Small-Outline Package, Body 5 x 4.4 mm, Pitch 0.65 mm; Supplier 1: Digi-Key; Supplier Part Number 1: SL38160AZC-18AHT-ND; Supplier 2: Mouser; Supplier Part Number 2: 634-SL38160AZC-18AHT; Packing: Tape and Reel; Mounting Technology: Surface Mount; Code_JEDEC: MO-153; Code_IPC: J-STD-020C; ComponentLink1Description: Manufacturer URL; ComponentLink1URL: http://www.silabs.com/; ComponentLink2Description: Datasheet; ComponentLink2URL: http://www.silabs.com/Support%20Documents/TechnicalDocs/SL38160-18.pdf; ComponentLink3Description: Package Specification; ComponentLink3URL: http://www.silabs.com/Support%20Documents/TechnicalDocs/Si53360.pdf
footprint SLAB-TSSOP-16_N (SOP, 16-Leads, Body 5.1x4.5mm, Pitch 0.65mm, IPC Medium Density)
footprint SLAB-TSSOP-16_L (SOP, 16-Leads, Body 5.1x4.5mm, Pitch 0.65mm, IPC High Density)
footprint SLAB-TSSOP-16_M (SOP, 16-Leads, Body 5.1x4.5mm, Pitch 0.65mm, IPC Low Density)
pins: 1 XIN "Crystal oscillator input. Use fundamental parallel mode 27MHz crystal.", 2 27M_REF (out) "27 MHz reference clock output.", 3 VIN (in) "VCXO frequency control voltage", 4 VDD (power) "3.3V +/-10% Positive Power Supply.", 5 VDD (power) "3.3V +/-10% Positive Power Supply.", 6 VSS (power) "Power supply ground for VDD.", 7 SDATA (io) "I2C Serial Data", 8 SCLK (in) "I2C Clock", 9 VCLK (hiz) "Video clock output. (Default on) (Can be changed to off/high impedance state through I2C)", 10 VSS (power) "Power supply ground for VDD.", 11 FIN (in) "External 27 MHz reference clock input. (Crystal mode or external clock mode controlled through I2C)", 12 VSS (power) "Power supply ground for VDD.", 13 VDD (power) "3.3V +/-10% Positive Power Supply.", 14 PD# (in) "Power down control. 1 = normal operation, 0 = power down mode, all output clocks in low state. This pin features a 250 kohm pullup resistor.", 15 VDD (power) "3.3V +/-10% Positive Power Supply.", 16 XOUT "Crystal oscillator output. Use fundamental parallel mode 27MHz crystal."

## SL38160AZC-23AH
designator U?
Programmable Audio / Video CG with VCXO, 3.3 V, 27 MHz Max Output, 0 to 70 degC, 16-pin SOP, Tube; Manufacturer: Silicon Labs; PartNumber: SL38160AZC-23AH; Output Format: LVCMOS; Output Frequency (MHz): 8.19 to 49.15; 13.5 to 148.5; 27; Phase Jitter (RMS): > 1 ps; Reference Inputs: 1; VDD: 3.3 V; Sub-Family: Clock Generators; DatasheetVersion: Rev. AB; PackageReference: TSSOP-16; PackageDescription: 16-Pin Thin Shrink Small-Outline Package, Body 5 x 4.4 mm, Pitch 0.65 mm; Packing: Tube; Mounting Technology: Surface Mount; Code_JEDEC: MO-153; Code_IPC: J-STD-020C; ComponentLink1Description: Manufacturer URL; ComponentLink1URL: http://www.silabs.com/; ComponentLink2Description: Datasheet; ComponentLink2URL: http://www.silabs.com/Support%20Documents/TechnicalDocs/SL38160-17.pdf; ComponentLink3Description: Package Specification; ComponentLink3URL: http://www.silabs.com/Support%20Documents/TechnicalDocs/Si53360.pdf
footprint SLAB-TSSOP-16_N (SOP, 16-Leads, Body 5.1x4.5mm, Pitch 0.65mm, IPC Medium Density)
footprint SLAB-TSSOP-16_L (SOP, 16-Leads, Body 5.1x4.5mm, Pitch 0.65mm, IPC High Density)
footprint SLAB-TSSOP-16_M (SOP, 16-Leads, Body 5.1x4.5mm, Pitch 0.65mm, IPC Low Density)
pins: 1 XIN "Crystal oscillator input. Use fundamental parallel mode 27MHz crystal.", 2 27M_REF1 (out) "27 MHz reference clock output 1. (Default on) (Can be changed to off/synchronous stop, pulled low to VSS, through I2C)", 3 VIN (in) "VCXO frequency control voltage", 4 VDD (power) "3.3V +/-10% Positive Power Supply.", 5 VDD (power) "3.3V +/-10% Positive Power Supply.", 6 VSS (power) "Power supply ground for VDD.", 7 SDATA (io) "I2C Serial Data", 8 SCLK (in) "I2C Clock", 9 VCLK (hiz) "Video clock output. (Default on) (Can be changed to off/high impedance state through I2C)", 10 VSS (power) "Power supply ground for VDD.", 11 ACLK (out) "Audio clock output .(Default on) (Can be changed to off/synchronous stop, pulled low to VSS, through I2C)", 12 VSS (power) "Power supply ground for VDD.", 13 VDD (power) "3.3V +/-10% Positive Power Supply.", 14 27M_REF2 (out) "27 MHz reference clock output 2. (Default on) (Can be changed to off/synchronous stop, pulled low to VSS, through I2C)", 15 VDD (power) "3.3V +/-10% Positive Power Supply.", 16 XOUT "Crystal oscillator output. Use fundamental parallel mode 27MHz crystal."

## SL38160AZC-23AHT
designator U?
Programmable Audio / Video CG with VCXO, 3.3 V, 27 MHz Max Output, 0 to 70 degC, 16-pin SOP, Tape and Reel; Manufacturer: Silicon Labs; PartNumber: SL38160AZC-23AHT; Output Format: LVCMOS; Output Frequency (MHz): 8.19 to 49.15; 13.5 to 148.5; 27; Phase Jitter (RMS): > 1 ps; Reference Inputs: 1; VDD: 3.3 V; Sub-Family: Clock Generators; DatasheetVersion: Rev. AB; PackageReference: TSSOP-16; PackageDescription: 16-Pin Thin Shrink Small-Outline Package, Body 5 x 4.4 mm, Pitch 0.65 mm; Packing: Tape and Reel; Mounting Technology: Surface Mount; Code_JEDEC: MO-153; Code_IPC: J-STD-020C; ComponentLink1Description: Manufacturer URL; ComponentLink1URL: http://www.silabs.com/; ComponentLink2Description: Datasheet; ComponentLink2URL: http://www.silabs.com/Support%20Documents/TechnicalDocs/SL38160-17.pdf; ComponentLink3Description: Package Specification; ComponentLink3URL: http://www.silabs.com/Support%20Documents/TechnicalDocs/Si53360.pdf
footprint SLAB-TSSOP-16_N (SOP, 16-Leads, Body 5.1x4.5mm, Pitch 0.65mm, IPC Medium Density)
footprint SLAB-TSSOP-16_L (SOP, 16-Leads, Body 5.1x4.5mm, Pitch 0.65mm, IPC High Density)
footprint SLAB-TSSOP-16_M (SOP, 16-Leads, Body 5.1x4.5mm, Pitch 0.65mm, IPC Low Density)
pins: 1 XIN "Crystal oscillator input. Use fundamental parallel mode 27MHz crystal.", 2 27M_REF1 (out) "27 MHz reference clock output 1. (Default on) (Can be changed to off/synchronous stop, pulled low to VSS, through I2C)", 3 VIN (in) "VCXO frequency control voltage", 4 VDD (power) "3.3V +/-10% Positive Power Supply.", 5 VDD (power) "3.3V +/-10% Positive Power Supply.", 6 VSS (power) "Power supply ground for VDD.", 7 SDATA (io) "I2C Serial Data", 8 SCLK (in) "I2C Clock", 9 VCLK (hiz) "Video clock output. (Default on) (Can be changed to off/high impedance state through I2C)", 10 VSS (power) "Power supply ground for VDD.", 11 ACLK (out) "Audio clock output .(Default on) (Can be changed to off/synchronous stop, pulled low to VSS, through I2C)", 12 VSS (power) "Power supply ground for VDD.", 13 VDD (power) "3.3V +/-10% Positive Power Supply.", 14 27M_REF2 (out) "27 MHz reference clock output 2. (Default on) (Can be changed to off/synchronous stop, pulled low to VSS, through I2C)", 15 VDD (power) "3.3V +/-10% Positive Power Supply.", 16 XOUT "Crystal oscillator output. Use fundamental parallel mode 27MHz crystal."

## SL38160AZC-24AH
designator U?
Programmable Video CG with VCXO, 3.3 V, 200 MHz Max Output, 0 to 70 degC, 16-pin SOP, Tube; Manufacturer: Silicon Labs; PartNumber: SL38160AZC-24AH; Output Format: LVCMOS; Output Frequency (MHz): 25 to 200; 27; Phase Jitter (RMS): > 1 ps; Reference Inputs: 2; VDD: 3.3 V; Sub-Family: Clock Generators; DatasheetVersion: Rev. AB; PackageReference: TSSOP-16; PackageDescription: 16-Pin Thin Shrink Small-Outline Package, Body 5 x 4.4 mm, Pitch 0.65 mm; Supplier 1: Mouser; Supplier Part Number 1: N/A; Packing: Tube; Mounting Technology: Surface Mount; Code_JEDEC: MO-153; Code_IPC: J-STD-020C; ComponentLink1Description: Manufacturer URL; ComponentLink1URL: http://www.silabs.com/; ComponentLink2Description: Datasheet; ComponentLink2URL: http://www.silabs.com/Support%20Documents/TechnicalDocs/SL38160-18.pdf; ComponentLink3Description: Package Specification; ComponentLink3URL: http://www.silabs.com/Support%20Documents/TechnicalDocs/Si53360.pdf
footprint SLAB-TSSOP-16_N (SOP, 16-Leads, Body 5.1x4.5mm, Pitch 0.65mm, IPC Medium Density)
footprint SLAB-TSSOP-16_L (SOP, 16-Leads, Body 5.1x4.5mm, Pitch 0.65mm, IPC High Density)
footprint SLAB-TSSOP-16_M (SOP, 16-Leads, Body 5.1x4.5mm, Pitch 0.65mm, IPC Low Density)
pins: 1 XIN "Crystal oscillator input. Use fundamental parallel mode 27MHz crystal.", 2 27M_REF (out) "27 MHz reference clock output.", 3 VIN (in) "VCXO frequency control voltage", 4 VDD (power) "3.3V +/-10% Positive Power Supply.", 5 VDD (power) "3.3V +/-10% Positive Power Supply.", 6 VSS (power) "Power supply ground for VDD.", 7 SDATA (io) "I2C Serial Data", 8 SCLK (in) "I2C Clock", 9 VCLK (hiz) "Video clock output. (Default on) (Can be changed to off/high impedance state through I2C)", 10 VSS (power) "Power supply ground for VDD.", 11 FIN (in) "External 27 MHz reference clock input. (Crystal mode or external clock mode controlled through I2C)", 12 VSS (power) "Power supply ground for VDD.", 13 VDD (power) "3.3V +/-10% Positive Power Supply.", 14 PD# (in) "Power down control. 1 = normal operation, 0 = power down mode, all output clocks in low state. This pin features a 250 kohm pullup resistor.", 15 VDD (power) "3.3V +/-10% Positive Power Supply.", 16 XOUT "Crystal oscillator output. Use fundamental parallel mode 27MHz crystal."

## SL38160AZC-24AHT
designator U?
Programmable Video CG with VCXO, 3.3 V, 200 MHz Max Output, 0 to 70 degC, 16-pin SOP, Tape and Reel; Manufacturer: Silicon Labs; PartNumber: SL38160AZC-24AHT; Output Format: LVCMOS; Output Frequency (MHz): 25 to 200; 27; Phase Jitter (RMS): > 1 ps; Reference Inputs: 2; VDD: 3.3 V; Sub-Family: Clock Generators; DatasheetVersion: Rev. AB; PackageReference: TSSOP-16; PackageDescription: 16-Pin Thin Shrink Small-Outline Package, Body 5 x 4.4 mm, Pitch 0.65 mm; Supplier 1: Mouser; Supplier Part Number 1: N/A; Packing: Tape and Reel; Mounting Technology: Surface Mount; Code_JEDEC: MO-153; Code_IPC: J-STD-020C; ComponentLink1Description: Manufacturer URL; ComponentLink1URL: http://www.silabs.com/; ComponentLink2Description: Datasheet; ComponentLink2URL: http://www.silabs.com/Support%20Documents/TechnicalDocs/SL38160-18.pdf; ComponentLink3Description: Package Specification; ComponentLink3URL: http://www.silabs.com/Support%20Documents/TechnicalDocs/Si53360.pdf
footprint SLAB-TSSOP-16_N (SOP, 16-Leads, Body 5.1x4.5mm, Pitch 0.65mm, IPC Medium Density)
footprint SLAB-TSSOP-16_L (SOP, 16-Leads, Body 5.1x4.5mm, Pitch 0.65mm, IPC High Density)
footprint SLAB-TSSOP-16_M (SOP, 16-Leads, Body 5.1x4.5mm, Pitch 0.65mm, IPC Low Density)
pins: 1 XIN "Crystal oscillator input. Use fundamental parallel mode 27MHz crystal.", 2 27M_REF (out) "27 MHz reference clock output.", 3 VIN (in) "VCXO frequency control voltage", 4 VDD (power) "3.3V +/-10% Positive Power Supply.", 5 VDD (power) "3.3V +/-10% Positive Power Supply.", 6 VSS (power) "Power supply ground for VDD.", 7 SDATA (io) "I2C Serial Data", 8 SCLK (in) "I2C Clock", 9 VCLK (hiz) "Video clock output. (Default on) (Can be changed to off/high impedance state through I2C)", 10 VSS (power) "Power supply ground for VDD.", 11 FIN (in) "External 27 MHz reference clock input. (Crystal mode or external clock mode controlled through I2C)", 12 VSS (power) "Power supply ground for VDD.", 13 VDD (power) "3.3V +/-10% Positive Power Supply.", 14 PD# (in) "Power down control. 1 = normal operation, 0 = power down mode, all output clocks in low state. This pin features a 250 kohm pullup resistor.", 15 VDD (power) "3.3V +/-10% Positive Power Supply.", 16 XOUT "Crystal oscillator output. Use fundamental parallel mode 27MHz crystal."

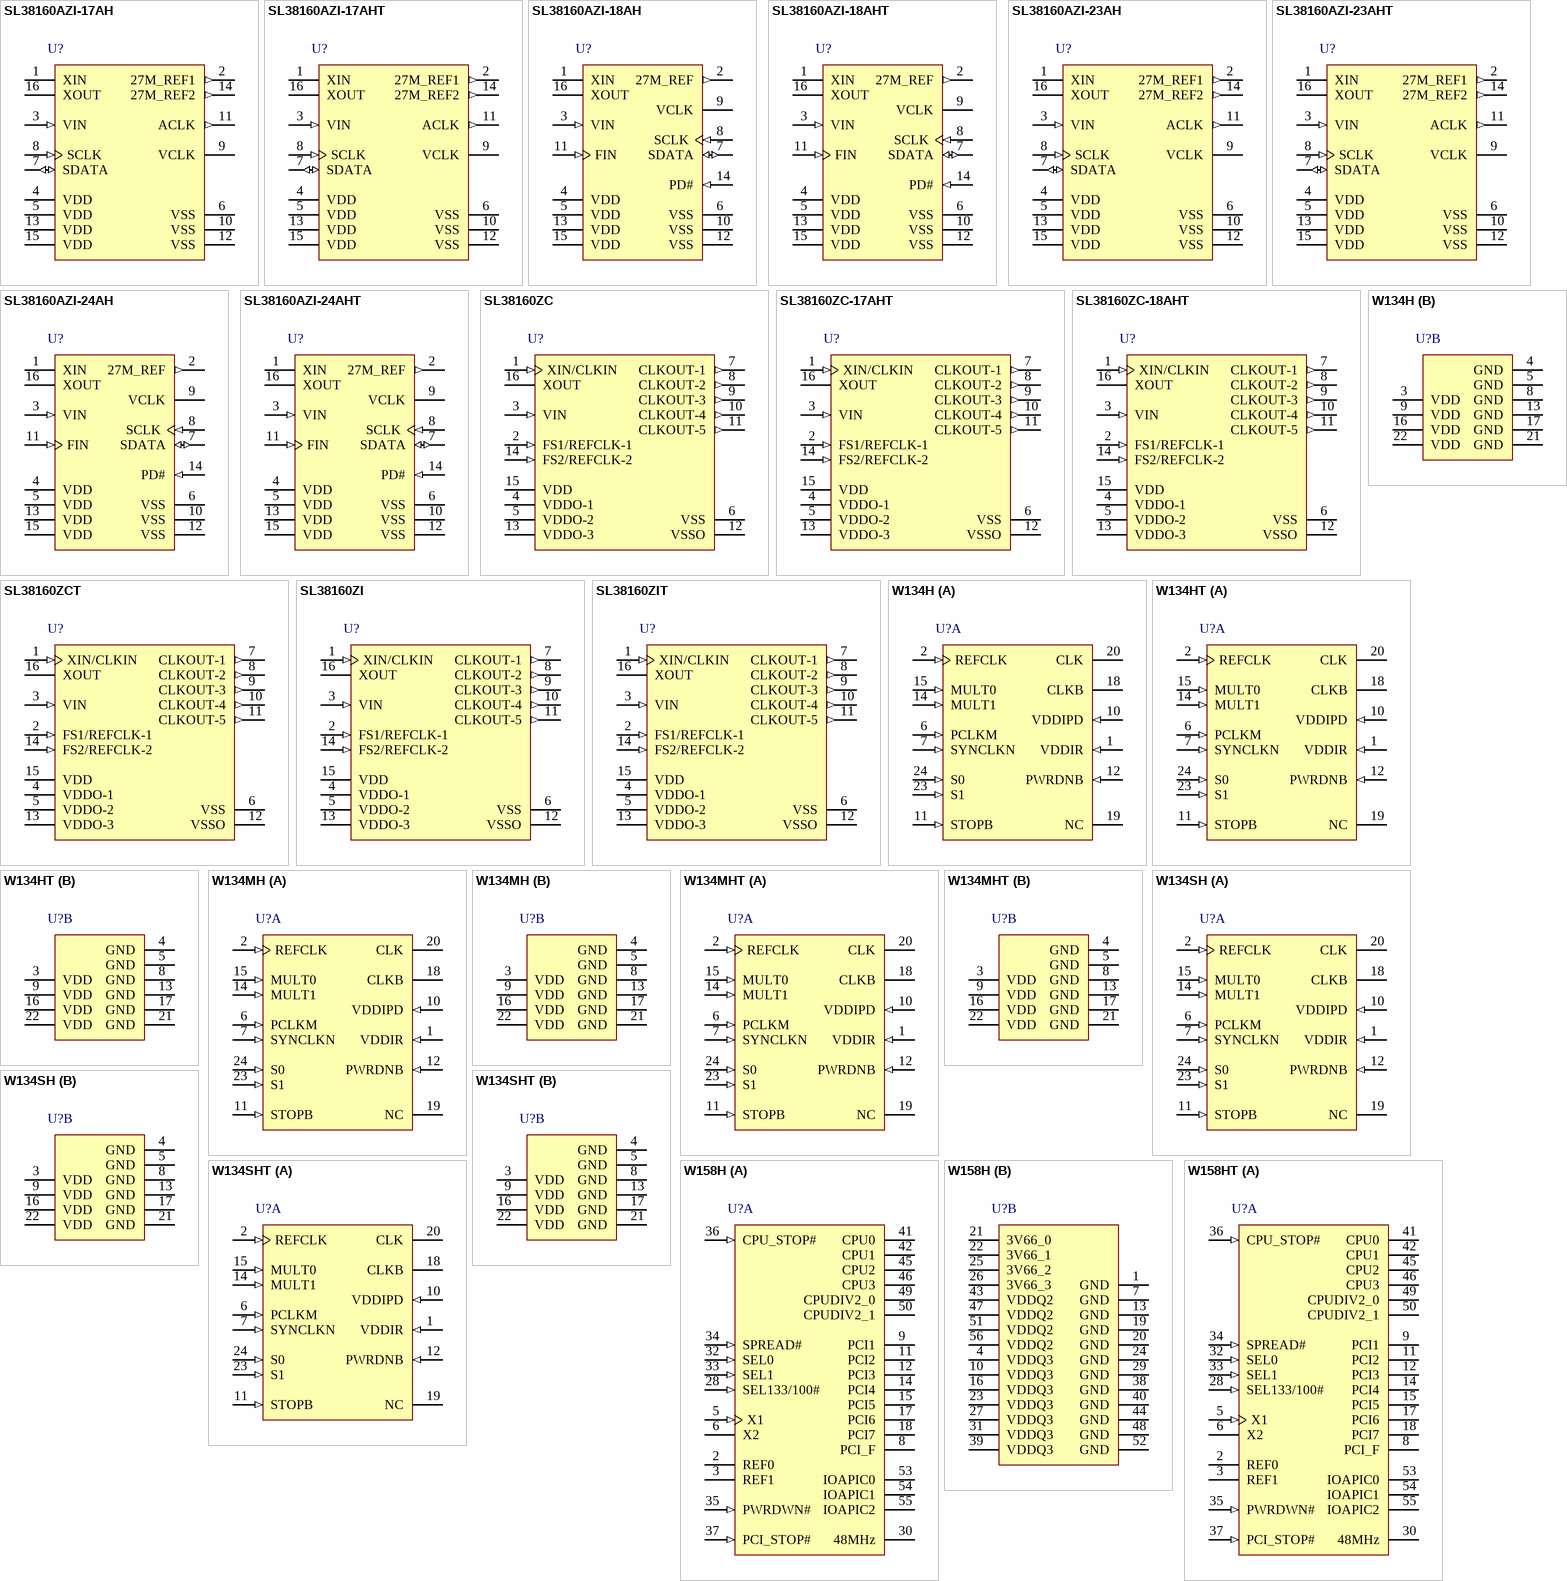
[diagram p42: symbols SL38160AZI-17AH to W158HT]

## SL38160AZI-17AH
designator U?
Programmable Audio / Video CG with VCXO, 3.3 V, 27 MHz Max Output, -40 to 85 degC, 16-pin SOP, Tube; Manufacturer: Silicon Labs; PartNumber: SL38160AZI-17AH; Output Format: LVCMOS; Output Frequency (MHz): 8.19 to 49.15; 13.5 to 148.5; 27; Phase Jitter (RMS): > 1 ps; Reference Inputs: 1; VDD: 3.3 V; Sub-Family: Clock Generators; DatasheetVersion: Rev. AB; PackageReference: TSSOP-16; PackageDescription: 16-Pin Thin Shrink Small-Outline Package, Body 5 x 4.4 mm, Pitch 0.65 mm; Packing: Tube; Mounting Technology: Surface Mount; Code_JEDEC: MO-153; Code_IPC: J-STD-020C; ComponentLink1Description: Manufacturer URL; ComponentLink1URL: http://www.silabs.com/; ComponentLink2Description: Datasheet; ComponentLink2URL: http://www.silabs.com/Support%20Documents/TechnicalDocs/SL38160-17.pdf; ComponentLink3Description: Package Specification; ComponentLink3URL: http://www.silabs.com/Support%20Documents/TechnicalDocs/Si53360.pdf
footprint SLAB-TSSOP-16_N (SOP, 16-Leads, Body 5.1x4.5mm, Pitch 0.65mm, IPC Medium Density)
footprint SLAB-TSSOP-16_L (SOP, 16-Leads, Body 5.1x4.5mm, Pitch 0.65mm, IPC High Density)
footprint SLAB-TSSOP-16_M (SOP, 16-Leads, Body 5.1x4.5mm, Pitch 0.65mm, IPC Low Density)
pins: 1 XIN "Crystal oscillator input. Use fundamental parallel mode 27MHz crystal.", 2 27M_REF1 (out) "27 MHz reference clock output 1. (Default on) (Can be changed to off/synchronous stop, pulled low to VSS, through I2C)", 3 VIN (in) "VCXO frequency control voltage", 4 VDD (power) "3.3V +/-10% Positive Power Supply.", 5 VDD (power) "3.3V +/-10% Positive Power Supply.", 6 VSS (power) "Power supply ground for VDD.", 7 SDATA (io) "I2C Serial Data", 8 SCLK (in) "I2C Clock", 9 VCLK (hiz) "Video clock output. (Default on) (Can be changed to off/high impedance state through I2C)", 10 VSS (power) "Power supply ground for VDD.", 11 ACLK (out) "Audio clock output .(Default on) (Can be changed to off/synchronous stop, pulled low to VSS, through I2C)", 12 VSS (power) "Power supply ground for VDD.", 13 VDD (power) "3.3V +/-10% Positive Power Supply.", 14 27M_REF2 (out) "27 MHz reference clock output 2. (Default on) (Can be changed to off/synchronous stop, pulled low to VSS, through I2C)", 15 VDD (power) "3.3V +/-10% Positive Power Supply.", 16 XOUT "Crystal oscillator output. Use fundamental parallel mode 27MHz crystal."

## SL38160AZI-17AHT
designator U?
Programmable Audio / Video CG with VCXO, 3.3 V, 27 MHz Max Output, -40 to 85 degC, 16-pin SOP, Tape and Reel; Manufacturer: Silicon Labs; PartNumber: SL38160AZI-17AHT; Output Format: LVCMOS; Output Frequency (MHz): 8.19 to 49.15; 13.5 to 148.5; 27; Phase Jitter (RMS): > 1 ps; Reference Inputs: 1; VDD: 3.3 V; Sub-Family: Clock Generators; DatasheetVersion: Rev. AB; PackageReference: TSSOP-16; PackageDescription: 16-Pin Thin Shrink Small-Outline Package, Body 5 x 4.4 mm, Pitch 0.65 mm; Packing: Tape and Reel; Mounting Technology: Surface Mount; Code_JEDEC: MO-153; Code_IPC: J-STD-020C; ComponentLink1Description: Manufacturer URL; ComponentLink1URL: http://www.silabs.com/; ComponentLink2Description: Datasheet; ComponentLink2URL: http://www.silabs.com/Support%20Documents/TechnicalDocs/SL38160-17.pdf; ComponentLink3Description: Package Specification; ComponentLink3URL: http://www.silabs.com/Support%20Documents/TechnicalDocs/Si53360.pdf
footprint SLAB-TSSOP-16_N (SOP, 16-Leads, Body 5.1x4.5mm, Pitch 0.65mm, IPC Medium Density)
footprint SLAB-TSSOP-16_L (SOP, 16-Leads, Body 5.1x4.5mm, Pitch 0.65mm, IPC High Density)
footprint SLAB-TSSOP-16_M (SOP, 16-Leads, Body 5.1x4.5mm, Pitch 0.65mm, IPC Low Density)
pins: 1 XIN "Crystal oscillator input. Use fundamental parallel mode 27MHz crystal.", 2 27M_REF1 (out) "27 MHz reference clock output 1. (Default on) (Can be changed to off/synchronous stop, pulled low to VSS, through I2C)", 3 VIN (in) "VCXO frequency control voltage", 4 VDD (power) "3.3V +/-10% Positive Power Supply.", 5 VDD (power) "3.3V +/-10% Positive Power Supply.", 6 VSS (power) "Power supply ground for VDD.", 7 SDATA (io) "I2C Serial Data", 8 SCLK (in) "I2C Clock", 9 VCLK (hiz) "Video clock output. (Default on) (Can be changed to off/high impedance state through I2C)", 10 VSS (power) "Power supply ground for VDD.", 11 ACLK (out) "Audio clock output .(Default on) (Can be changed to off/synchronous stop, pulled low to VSS, through I2C)", 12 VSS (power) "Power supply ground for VDD.", 13 VDD (power) "3.3V +/-10% Positive Power Supply.", 14 27M_REF2 (out) "27 MHz reference clock output 2. (Default on) (Can be changed to off/synchronous stop, pulled low to VSS, through I2C)", 15 VDD (power) "3.3V +/-10% Positive Power Supply.", 16 XOUT "Crystal oscillator output. Use fundamental parallel mode 27MHz crystal."

## SL38160AZI-18AH
designator U?
Programmable Video CG with VCXO, 3.3 V, 200 MHz Max Output, -40 to 85 degC, 16-pin SOP, Tube; Manufacturer: Silicon Labs; PartNumber: SL38160AZI-18AH; Output Format: LVCMOS; Output Frequency (MHz): 25 to 200; 27; Phase Jitter (RMS): > 1 ps; Reference Inputs: 2; VDD: 3.3 V; Sub-Family: Clock Generators; DatasheetVersion: Rev. AB; PackageReference: TSSOP-16; PackageDescription: 16-Pin Thin Shrink Small-Outline Package, Body 5 x 4.4 mm, Pitch 0.65 mm; Packing: Tube; Mounting Technology: Surface Mount; Code_JEDEC: MO-153; Code_IPC: J-STD-020C; ComponentLink1Description: Manufacturer URL; ComponentLink1URL: http://www.silabs.com/; ComponentLink2Description: Datasheet; ComponentLink2URL: http://www.silabs.com/Support%20Documents/TechnicalDocs/SL38160-18.pdf; ComponentLink3Description: Package Specification; ComponentLink3URL: http://www.silabs.com/Support%20Documents/TechnicalDocs/Si53360.pdf
footprint SLAB-TSSOP-16_N (SOP, 16-Leads, Body 5.1x4.5mm, Pitch 0.65mm, IPC Medium Density)
footprint SLAB-TSSOP-16_L (SOP, 16-Leads, Body 5.1x4.5mm, Pitch 0.65mm, IPC High Density)
footprint SLAB-TSSOP-16_M (SOP, 16-Leads, Body 5.1x4.5mm, Pitch 0.65mm, IPC Low Density)
pins: 1 XIN "Crystal oscillator input. Use fundamental parallel mode 27MHz crystal.", 2 27M_REF (out) "27 MHz reference clock output.", 3 VIN (in) "VCXO frequency control voltage", 4 VDD (power) "3.3V +/-10% Positive Power Supply.", 5 VDD (power) "3.3V +/-10% Positive Power Supply.", 6 VSS (power) "Power supply ground for VDD.", 7 SDATA (io) "I2C Serial Data", 8 SCLK (in) "I2C Clock", 9 VCLK (hiz) "Video clock output. (Default on) (Can be changed to off/high impedance state through I2C)", 10 VSS (power) "Power supply ground for VDD.", 11 FIN (in) "External 27 MHz reference clock input. (Crystal mode or external clock mode controlled through I2C)", 12 VSS (power) "Power supply ground for VDD.", 13 VDD (power) "3.3V +/-10% Positive Power Supply.", 14 PD# (in) "Power down control. 1 = normal operation, 0 = power down mode, all output clocks in low state. This pin features a 250 kohm pullup resistor.", 15 VDD (power) "3.3V +/-10% Positive Power Supply.", 16 XOUT "Crystal oscillator output. Use fundamental parallel mode 27MHz crystal."